# Altium schematic symbol library Huan.SCHLIB: 92 symbols
Pins are listed as number, name and electrical type; pins without a type are passive.

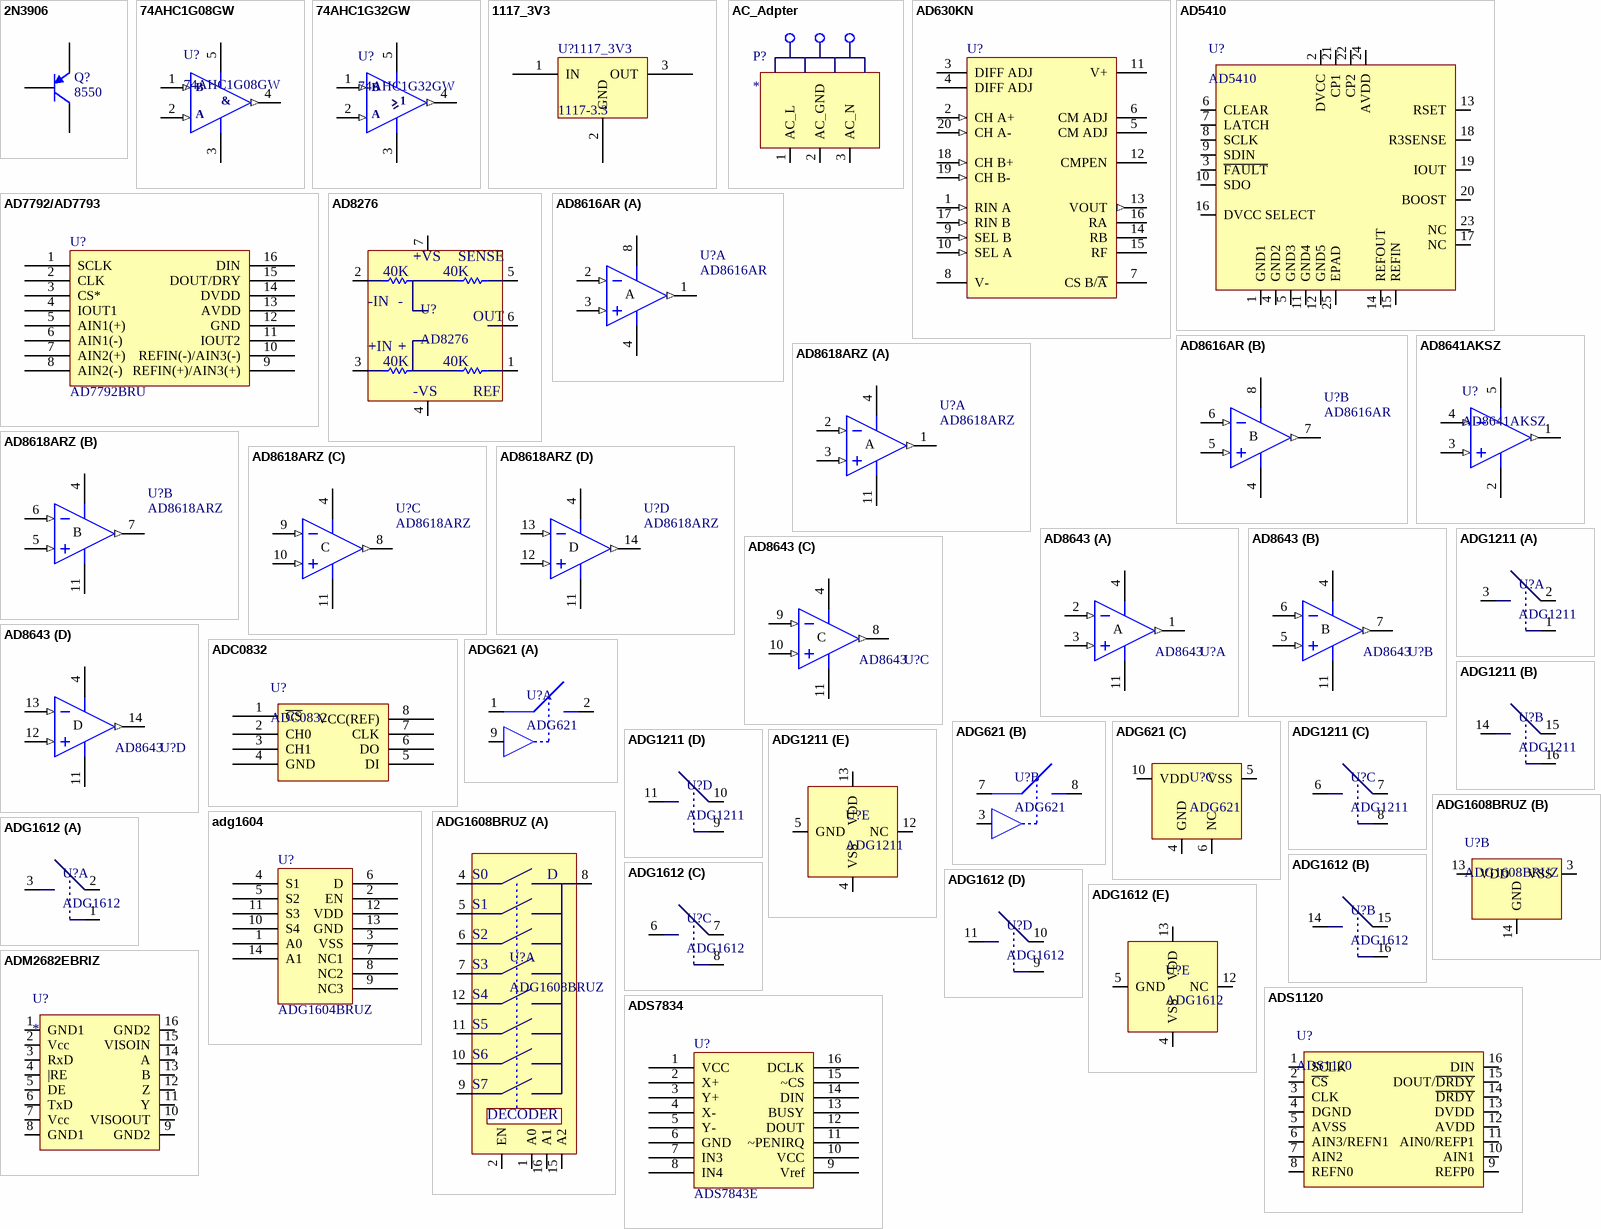
[diagram p0: symbols 2N3906 to ADS7834]

## 2N3906
designator Q?, comment 8550
PNP General Purpose Amplifier; Published: 8-Jun-2000; LatestRevisionDate: 15-Jan-2003; LatestRevisionNote: PCB Footprint 'BCY-W3/D4.7' replaced; DatasheetVersion: 1997; PackageVersion: Sep-1998; PackageReference: TO-92A; Publisher: Altium Limited; Code_JEDEC: TO-92A; ComponentLink1Description: Manufacturer Link; ComponentLink1URL: http://www.fairchildsemi.com/; ComponentLink2Description: Datasheet; ComponentLink2URL: http://www.fairchildsemi.com/ds/2N%2F2N3906.pdf
footprint SOT23 (SOT23, 3-Leads, Body 3.0x2.6mm (max), Pitch 0.95mm, IPC Medium Density); pin to pad 1>2 2>1
simulation model 2N3906 (PNP)
signal-integrity model 2N3906
pins: 1 E, 2 B, 3 C

## 74AHC1G08GW
designator U?
footprint DCK (SOT23, 5-Leads, Body 2.2x2.4mm (max), Pitch 0.65mm, IPC Medium Density)
pins: 1 A (in), 2 B (in), 3 V- (power), 4 OUT (out), 5 V+ (power)
text: &

## 74AHC1G32GW
designator U?
footprint dck (SOT23, 5-Leads, Body 2.2x2.4mm (max), Pitch 0.65mm, IPC Medium Density)
pins: 1 A (in), 2 B (in), 3 V- (power), 4 OUT (out), 5 V+ (power)

## 1117_3V3
designator U?
footprint SOT223 (SOT223, 4-Leads, Body 6.7x7.3mm (max), Pitch 2.30mm, IPC Medium Density); pin to pad 1>3 2>1 3>2
pins: 1 IN, 2 GND, 3 OUT
text: 1117-3.3

## AC_Adpter
designator P?
pins: 1 AC_L, 2 AC_GND, 3 AC_N

## AD630KN
designator U?
Balanced Modulator/Demodulator; Published: 8-Jun-2000; LatestRevisionDate: 29-May-2009; LatestRevisionNote: Component Body Added.; DatasheetVersion: Rev.A 1998; PackageReference: N-20; Publisher: Altium Limited; PackageDescription: DIP, 20-Pin, Row Spacing 7.62 mm, Pitch 2.54 mm; Code_JEDEC: MS-001-AD; ComponentLink1Description: Manufacturer Link; ComponentLink1URL: http://www.analog.com/en/prod/0%2C2877%2CAD630%2C00.html; ComponentLink2Description: Datasheet; ComponentLink2URL: http://www.analog.com/UploadedFiles/Data_Sheets/106127811AD630_e.pdf
footprint N-20 (DIP, 20-Leads, Row Spacing 7.62mm, Pitch 2.54mm, Body 25.2x6.61mm)
pins: 1 RIN A (in), 2 CH A+ (in), 3 DIFF ADJ, 4 DIFF ADJ, 5 CM ADJ, 6 CM ADJ, 7 CS B/~{A} (oc), 8 V- (power), 9 SEL B (in), 10 SEL A (in), 11 V+ (power), 12 CMPEN, 13 VOUT (out), 14 RB, 15 RF, 16 RA, 17 RIN B (in), 18 CH B+ (in), 19 CH B- (in), 20 CH A- (in)

## AD5410
designator U?
pins: 1 GND1, 2 DVCC, 3 ~{FAULT}, 4 GND2, 5 GND3, 6 CLEAR, 7 LATCH, 8 SCLK, 9 SDIN, 10 SDO, 11 GND4, 12 GND5, 13 RSET, 14 REFOUT, 15 REFIN, 16 DVCC SELECT, 17 NC, 18 R3SENSE, 19 IOUT, 20 BOOST, 21 CP1, 22 CP2, 23 NC, 24 AVDD, 25 EPAD

## AD7792/AD7793
designator U?, comment AD7792BRU
footprint TSSOP16
pins: 1 SCLK, 2 CLK, 3 CS*, 4 IOUT1, 5 AIN1(+), 6 AIN1(-), 7 AIN2(+), 8 AIN2(-), 9 REFIN(+)/AIN3(+), 10 REFIN(-)/AIN3(-), 11 IOUT2, 12 GND, 13 AVDD, 14 DVDD, 15 DOUT/DRY, 16 DIN

## AD8276
designator U?
pins: 1, 2, 3, 4, 5, 6, 7
text: +VS; SENSE; 40K; -IN; -; OUT; +IN; +; -VS; REF

## AD8616AR
designator U?
Published: 8-Jun-2000; LatestRevisionDate: 13-Apr-2006; LatestRevisionNote: IPC-7351 Footprint Added.; DatasheetVersion: REV. B 1998; PackageVersion: revA; PackageReference: SO-8; Publisher: Altium Limited; PackageDescription: 8-Pin Small Outline Integrated Circuit 1.27 mm Pitch; Code_JEDEC: MS-012-AA; Code_IPC: SOIC127P600-8; ComponentLink1Description: Manufacturer Link; ComponentLink1URL: http://www.analog.com/en/prod/0,,759_786_AD812%2C00.html; ComponentLink2Description: Datasheet; ComponentLink2URL: http://www.analog.com/UploadedFiles/Data_Sheets/200001408AD812_b.pdf
footprint SO-8_N (SOIC, 8-Leads, Body 4.9x3.9mm, Pitch 1.27mm, IPC Medium Density)
footprint SO-8_L (SOIC, 8-Leads, Body 4.9x3.9mm, Pitch 1.27mm, IPC High Density)
footprint SO-8_M (SOIC, 8-Leads, Body 4.9x3.9mm, Pitch 1.27mm, IPC Low Density)
3D model SO-8 (8-Pin Small Outline Integrated Circuit 1.27 mm Pitch)
simulation model AD812A (SUBCKT)
pins on every part: 4 V- (power), 8 V+ (power)
part A pins: 1 OUT (out), 2 IN- (in), 3 IN+ (in)
part B pins: 5 IN+ (in), 6 IN- (in), 7 OUT (out)
part A text: A
part B text: B

## AD8618ARZ
designator U?
Published: 8-Jun-2000; LatestRevisionDate: 04-Mar-2005; LatestRevisionNote: Stylized 3D Model Added.; DatasheetVersion: REV. B; PackageVersion: revB; PackageReference: Q-14; Publisher: Altium Limited; PackageDescription: DIP; 14 Leads; Row Spacing 7.62 mm; Pitch 2.54 mm; ComponentLink1Description: Manufacturer Link; ComponentLink1URL: http://www.analog.com/en/prod/0,,759_786_AD713%2C00.html; ComponentLink2Description: Datasheet; ComponentLink2URL: http://www.analog.com/UploadedFiles/Data_Sheets/70859332AD713_c.pdf
footprint R-14_l (SOIC, 14-Leads, Body 8.7x3.9mm, Pitch 1.27mm, IPC High Density)
pins on every part: 4 V+ (power), 11 V- (power)
part A pins: 1 OUT (out), 2 IN- (in), 3 IN+ (in)
part B pins: 5 IN+ (in), 6 IN- (in), 7 OUT (out)
part C pins: 8 OUT (out), 9 IN- (in), 10 IN+ (in)
part D pins: 12 IN+ (in), 13 IN- (in), 14 OUT (out)
part A text: A
part B text: B
part C text: C
part D text: D

## AD8641AKSZ
designator U?
footprint DCK (SOT23, 5-Leads, Body 2.2x2.4mm (max), Pitch 0.65mm, IPC Medium Density)
pins: 1 OUT (out), 2 V- (power), 3 IN+ (in), 4 IN- (in), 5 V+ (power)

## AD8643
designator U?
Published: 8-Jun-2000; LatestRevisionDate: 04-Mar-2005; LatestRevisionNote: Stylized 3D Model Added.; DatasheetVersion: REV. B; PackageVersion: revB; PackageReference: N-14_A; Publisher: Altium Limited; PackageDescription: DIP; 14 Leads; Row Spacing 7.62 mm; Pitch 2.54 mm; ComponentLink1Description: Manufacturer Link; ComponentLink1URL: http://www.analog.com/en/prod/0,,759_786_AD713%2C00.html; ComponentLink2Description: Datasheet; ComponentLink2URL: http://www.analog.com/UploadedFiles/Data_Sheets/70859332AD713_c.pdf
footprint R-14_l (SOIC, 14-Leads, Body 8.7x3.9mm, Pitch 1.27mm, IPC High Density)
pins on every part: 4 V+ (power), 11 V- (power)
part A pins: 1 OUT (out), 2 IN- (in), 3 IN+ (in)
part B pins: 5 IN+ (in), 6 IN- (in), 7 OUT (out)
part C pins: 8 OUT (out), 9 IN- (in), 10 IN+ (in)
part D pins: 12 IN+ (in), 13 IN- (in), 14 OUT (out)
part A text: A
part B text: B
part C text: C
part D text: D

## ADC0832
designator U?
footprint DIP8
pins: 1 ~{CS}, 2 CH0, 3 CH1, 4 GND, 5 DI, 6 DO, 7 CLK, 8 VCC(REF)

## ADG621
designator U?
part A pins: 1, 2, 9
part B pins: 3, 7, 8
part C pins: 4 GND, 5 VSS, 6 NC, 10 VDD

## ADG1211
designator U?
part A pins: 1, 2, 3
part B pins: 14, 15, 16
part C pins: 6, 7, 8
part D pins: 9, 10, 11
part E pins: 4 VSS, 5 GND, 12 NC, 13 VDD

## adg1604
designator U?, comment ADG1604BRUZ
footprint Tssop14 (Shrink Small Outline; 14 Leads; Body Width 4.4 mm; Pitch 0.65 mm)
pins: 1 A0, 2 EN, 3 VSS, 4 S1, 5 S2, 6 D, 7 NC1, 8 NC2, 9 NC3, 10 S4, 11 S3, 12 VDD, 13 GND, 14 A1

## ADG1608BRUZ
designator U?
part A pins: 1 A0, 2 EN, 4, 5, 6, 7, 8, 9, 10, 11, 12, 15 A2, 16 A1
part B pins: 3 VSS, 13 VDD, 14 GND
part A text: S0; D; S1; S2; S3; S4; S5; S6; S7; DECODER

## ADG1612
designator U?
part A pins: 1, 2, 3
part B pins: 14, 15, 16
part C pins: 6, 7, 8
part D pins: 9, 10, 11
part E pins: 4 VSS, 5 GND, 12 NC, 13 VDD

## ADM2682EBRIZ
designator U?
footprint SOIC127P1030X265-16N (SOIC, 16-Leads, Body 13.0x7.6mm (max), Pitch 1.27mm, IPC Medium Density)
pins: 1 GND1, 2 Vcc, 3 RxD, 4 |RE, 5 DE, 6 TxD, 7 Vcc, 8 GND1, 9 GND2, 10 VISOOUT, 11 Y, 12 Z, 13 B, 14 A, 15 VISOIN, 16 GND2

## ADS1120
designator U?
pins: 1 SCLK, 2 ~{CS}, 3 CLK, 4 DGND, 5 AVSS, 6 AIN3/REFN1, 7 AIN2, 8 REFN0, 9 REFP0, 10 AIN1, 11 AIN0/REFP1, 12 AVDD, 13 DVDD, 14 ~{DRDY}, 15 DOUT/~{DRDY}, 16 DIN

## ADS7834
designator U?, comment ADS7843E
footprint SSOP16 (SSOP, Plastic; 16 Leads; Body Width 5.3 mm; Pitch 0.65 mm)
pins: 1 VCC, 2 X+, 3 Y+, 4 X-, 5 Y-, 6 GND, 7 IN3, 8 IN4, 9 Vref, 10 VCC, 11 ~PENIRQ, 12 DOUT, 13 BUSY, 14 DIN, 15 ~CS, 16 DCLK

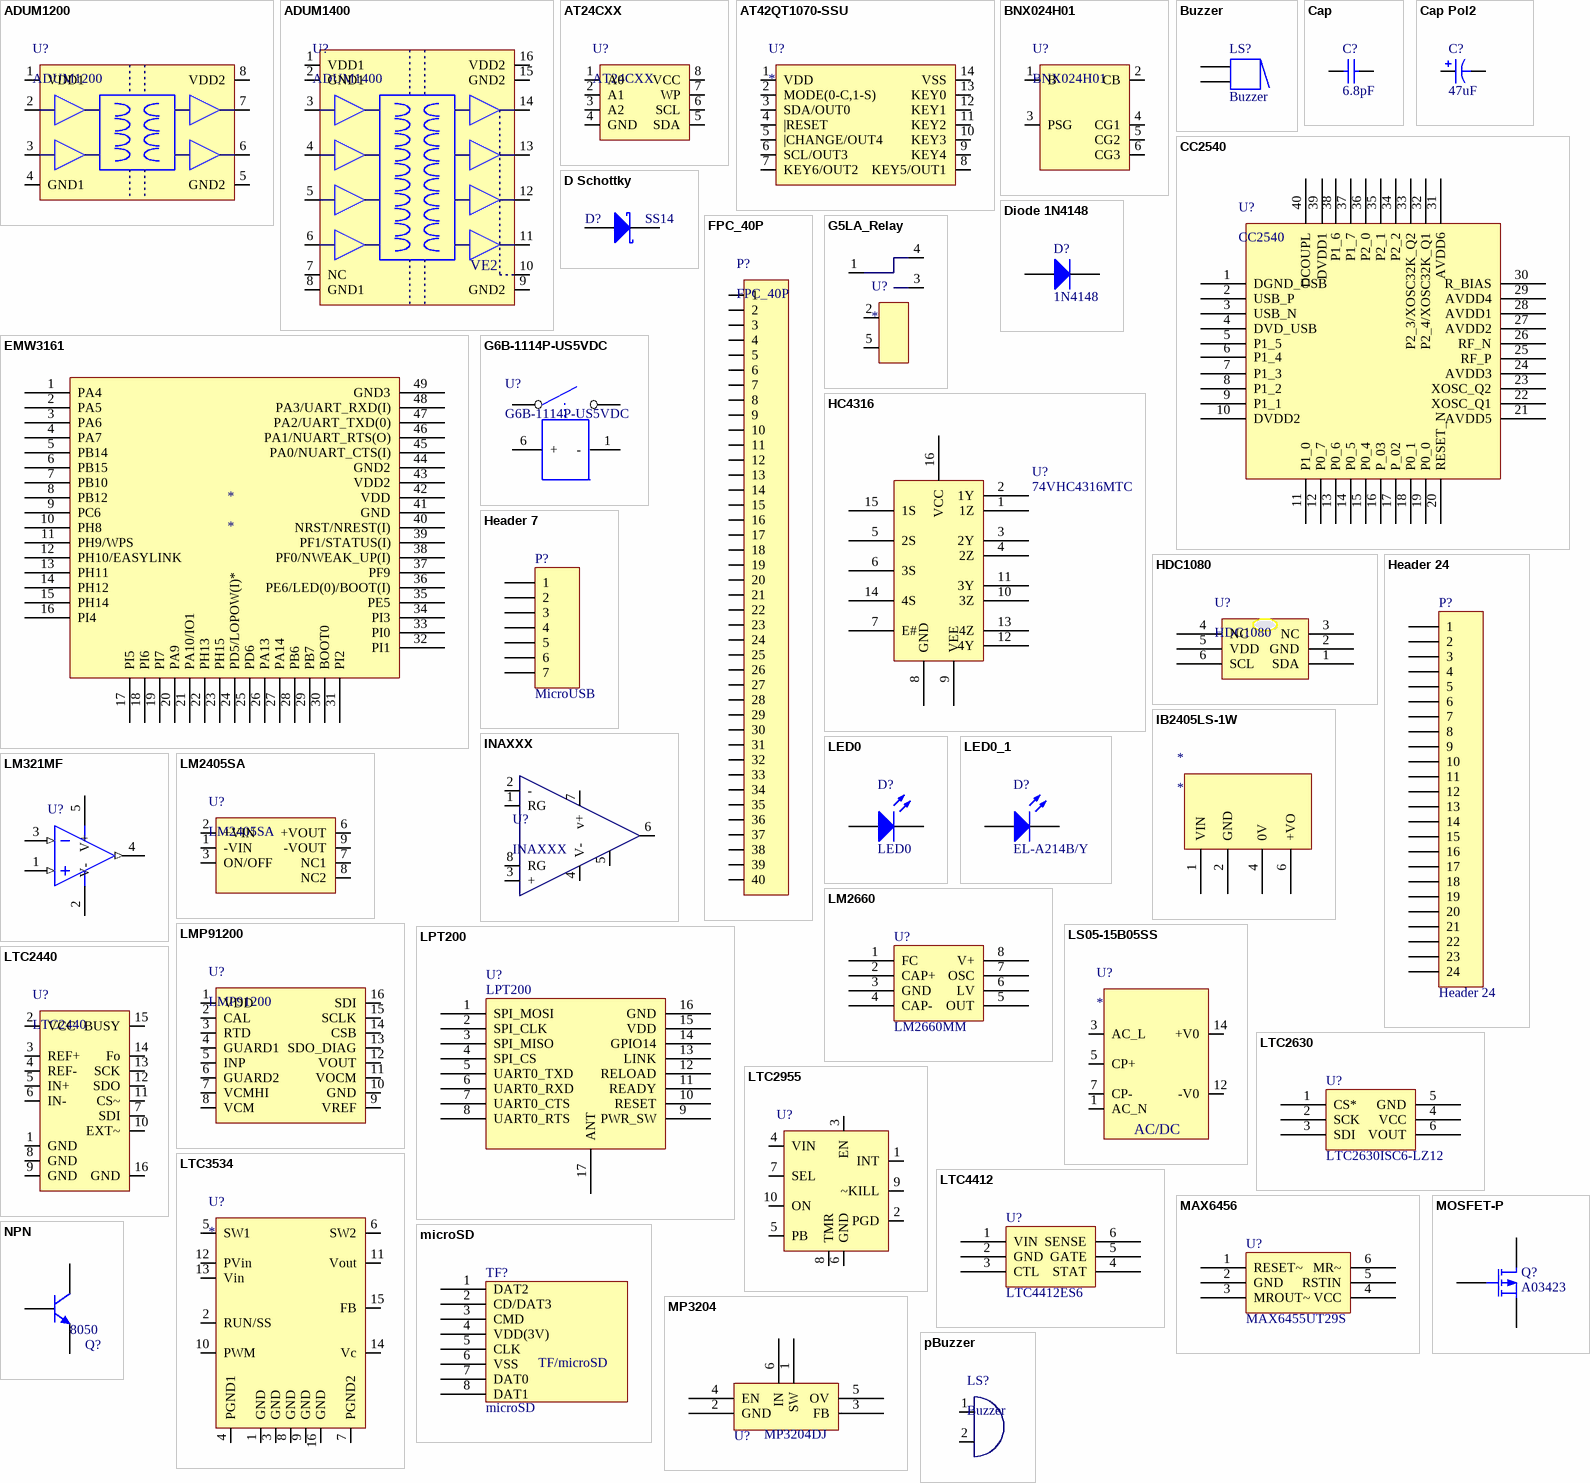
[diagram p1: symbols ADUM1200 to pBuzzer]

## ADUM1200
designator U?
pins: 1 VDD1, 2, 3, 4 GND1, 5 GND2, 6, 7, 8 VDD2

## ADUM1400
designator U?
pins: 1 VDD1, 2 GND1, 3, 4, 5, 6, 7 NC, 8 GND1, 9 GND2, 10, 11, 12, 13, 14, 15 GND2, 16 VDD2
text: VE2

## AT24CXX
designator U?
pins: 1 A0, 2 A1, 3 A2, 4 GND, 5 SDA, 6 SCL, 7 WP, 8 VCC

## AT42QT1070-SSU
designator U?
footprint R-14_l
pins: 1 VDD, 2 MODE(0-C,1-S), 3 SDA/OUT0, 4 |RESET, 5 |CHANGE/OUT4, 6 SCL/OUT3, 7 KEY6/OUT2, 8 KEY5/OUT1, 9 KEY4, 10 KEY3, 11 KEY2, 12 KEY1, 13 KEY0, 14 VSS

## BNX024H01
designator U?
pins: 1 B, 2 CB, 3 PSG, 4 CG1, 5 CG2, 6 CG3

## Buzzer
designator LS?
Magnetic Transducer Buzzer; Published: 24-Mar-1999; LatestRevisionDate: 17-Dec-2003; LatestRevisionNote: Schematic revised, PCB Footprint replaced.; DatasheetVersion: 17-Dec-2003; PackageReference: ABSM-1574; Publisher: Altium Limited; ComponentLink1Description: Manufacturer Link; ComponentLink1URL: http://www.megastar.com/linecard/buzzmode/index.php
footprint buzzer; pin to pad 1A>1 2A>2
pins: 1, 1A, 2, 2A
1 alternate drawing of the same symbol

## Cap
designator C?  value 6.8pF  (hidden comment: Cap)
Capacitor; Published: 8-Jun-2000; LatestRevisionDate: 17-Jul-2002; LatestRevisionNote: Re-released for DXP Platform.; PackageReference: RAD-0.3; Publisher: Altium Limited
footprint RAD-0.3 (Radial Cap, Thru-Hole; 2 Leads; 0.3 in Pin Spacing)
footprint CAPR2.54-5.1x3.2 (Capacitor, Ceramic, Thru-Hole, Dipped Radial; Body 5.1 x 3.2 mm (WxT) Pin Spacing 2.54 mm (typ))
footprint CAPR5.08-7.8x3.2 (Capacitor, Ceramic, Thru-Hole, Dipped Radial; Body 7.8 x 3.2 mm (WxT) Pin Spacing 5.08 mm (typ))
simulation model CAP (Capacitor)
signal-integrity model Cap
footprint 0603C
pins: 1, 2

## Cap Pol2
designator C?  value 47uF  (hidden comment: Cap Pol2)
Polarized Capacitor (Axial); Published: 8-Jun-2000; LatestRevisionDate: 17-Jul-2002; LatestRevisionNote: Re-released for DXP Platform.; PackageReference: POLAR0.8; Publisher: Altium Limited
footprint POLAR0.8 (Polarized Capacitor (Axial); 2 Leads)
footprint CAPPA14.05-10.5x6.3 (Capacitor, Axial, Polarised; Body 10.5 x 6.3 mm (LxDia. max), Lead Dia. 0.6 mm (typ))
footprint CAPPA23.6-18.5x8.5 (Capacitor, Axial, Polarised; Body 18.5 x 8.5 mm (LxDia. max), Lead Dia. 0.8 mm (typ))
footprint CAPPA31.6-26.5x12.5 (Capacitor, Axial, Polarised; Body 26.5 x 12.5 mm (LxDia. max), Lead Dia. 0.8 mm (typ))
footprint CAPPA35.6-30.5x18.5 (Capacitor, Axial, Polarised; Body 30.5 x 18.5 mm (LxDia. max), Lead Dia. 0.8 mm (typ))
footprint CAPPA46.1-41x21.5 (Capacitor, Axial, Polarised; Body 41 x 21.5 mm (LxDia. max), Lead Dia. 0.8 mm (typ))
simulation model CAP (Capacitor)
signal-integrity model Cap Pol
footprint 3528
pins: 1, 2
1 alternate drawing of the same symbol

## CC2540
designator U?
footprint VQFP-40 (Footprint not found)
pins: 1 DGND_USB, 2 USB_P, 3 USB_N, 4 DVD_USB, 5 P1_5, 6 P1_4, 7 P1_3, 8 P1_2, 9 P1_1, 10 DVDD2, 11 P1_0, 12 P0_7, 13 P0_6, 14 P0_5, 15 P0_4, 16 P_03, 17 P_02, 18 P0_1, 19 P0_0, 20 RESET_N, 21 AVDD5, 22 XOSC_Q1, 23 XOSC_Q2, 24 AVDD3, 25 RF_P, 26 RF_N, 27 AVDD2, 28 AVDD1, 29 AVDD4, 30 R_BIAS, 31 AVDD6, 32 P2_4/XOSC32K_Q1, 33 P2_3/XOSC32K_Q2, 34 P2_2, 35 P2_1, 36 P2_0, 37 P1_7, 38 P1_6, 39 DVDD1, 40 DCOUPL

## D Schottky
designator D?, comment SS14
Schottky Diode; Published: 8-Jun-2000; LatestRevisionDate: 17-Jul-2002; LatestRevisionNote: Re-released for DXP Platform.; PackageReference: SMB; Publisher: Altium Limited; Code_JEDEC: DO-214-AA
footprint ss1x
simulation model SKYDIODE (Diode)
signal-integrity model D Schottky
pins: 1 A, 2 K

## Diode 1N4148
designator D?, comment 1N4148
High Conductance Fast Diode; Published: 8-Jun-2000; LatestRevisionDate: 17-Jul-2002; LatestRevisionNote: Re-released for DXP Platform.; DatasheetVersion: 1997; PackageReference: DO-35; Publisher: Altium Limited; Code_JEDEC: DO-204-AH; ComponentLink1Description: Manufacturer Link; ComponentLink1URL: http://www.fairchildsemi.com/; ComponentLink2Description: Datasheet; ComponentLink2URL: http://www.fairchildsemi.com/ds/1N%2F1N4148.pdf
footprint SOD-323
simulation model 1N4148 (DIODE)
signal-integrity model 1N4148
pins: 1 A, 2 K

## EMW3161
designator *
footprint EMW3161
pins: 1 PA4, 2 PA5, 3 PA6, 4 PA7, 5 PB14, 6 PB15, 7 PB10, 8 PB12, 9 PC6, 10 PH8, 11 PH9/WPS, 12 PH10/EASYLINK, 13 PH11, 14 PH12, 15 PH14, 16 PI4, 17 PI5, 18 PI6, 19 PI7, 20 PA9, 21 PA10/IO1, 22 PH13, 23 PH15, 24 PD5/LOPOW(I)*, 25 PD6, 26 PA13, 27 PA14, 28 PB6, 29 PB7, 30 BOOT0, 31 PI2, 32 PI1, 33 PI0, 34 PI3, 35 PE5, 36 PE6/LED(0)/BOOT(I), 37 PF9, 38 PF0/NWEAK_UP(I), 39 PF1/STATUS(I), 40 NRST/NREST(I), 41 GND, 42 VDD, 43 VDD2, 44 GND2, 45 PA0/NUART_CTS(I), 46 PA1/NUART_RTS(O), 47 PA2/UART_TXD(0), 48 PA3/UART_RXD(I), 49 GND3

## FPC_40P
designator P?
pins: 1, 2, 3, 4, 5, 6, 7, 8, 9, 10, 11, 12, 13, 14, 15, 16, 17, 18, 19, 20, 21, 22, 23, 24, 25, 26, 27, 28, 29, 30, 31, 32, 33, 34, 35, 36, 37, 38, 39, 40

## G5LA_Relay
designator U?
pins: 1, 2, 3, 4, 5

## G6B-1114P-US5VDC
designator U?
footprint G6B-1114P-US-XXVDC
pins: 1 -, 3, 4, 6 +

## HC4316
designator U?, comment 74VHC4316MTC
footprint ssop16 (SSOP, Plastic; 16 Leads; Body Width 5.3 mm; Pitch 0.65 mm)
pins: 1 1Z, 2 1Y, 3 2Y, 4 2Z, 5 2S, 6 3S, 7 E#, 8 GND, 9 VEE, 10 3Z, 11 3Y, 12 4Y, 13 4Z, 14 4S, 15 1S, 16 VCC

## HDC1080
designator U?
footprint DFN-6
pins: 1 SDA, 2 GND, 3 NC, 4 NC, 5 VDD, 6 SCL

## Header 7
designator P?, comment MicroUSB
Header, 7-Pin; LatestRevisionDate: 17-Jul-2002; LatestRevisionNote: Re-released for DXP Platform.; Publisher: Altium Limited
footprint Microusb
signal-integrity model Connector
pins: 1, 2, 3, 4, 5, 6, 7

## Header 24
designator P?
Header, 24-Pin; LatestRevisionDate: 17-Jul-2002; LatestRevisionNote: Re-released for DXP Platform.; Publisher: Altium Limited
footprint FPC_24P_0.5
signal-integrity model Connector
pins: 1, 2, 3, 4, 5, 6, 7, 8, 9, 10, 11, 12, 13, 14, 15, 16, 17, 18, 19, 20, 21, 22, 23, 24

## IB2405LS-1W
designator *
footprint IB2405LS-1W
pins: 1 VIN, 2 GND, 4 0V, 6 +VO

## INAXXX
designator U?
pins: 1 RG, 2 -, 3 +, 4 V-, 5, 6, 7 v+, 8 RG

## LED0
designator D?
LED; Published: 8-Jun-2000; LatestRevisionDate: 08-Jul-2005; LatestRevisionNote: Mech Layer 1 removed.; PackageReference: LED-0; Publisher: Altium Limited
footprint 5mmLED (5mmLED 绿)
pins: 1 A, 2 K

## LED0_1
designator D?, comment EL-A214B/Y
Typical INFRARED GaAs LED; Published: 8-Jun-2000; LatestRevisionDate: 08-Jul-2005; LatestRevisionNote: Mech Layer 1 removed.; PackageReference: LED-0; Publisher: Altium Limited
footprint LED-2.54
simulation model LED0 (Diode)
pins: 1 A, 2 K

## LM321MF
designator U?
Low Power Single Op Amp; PartNumber: LM321MF; Manufacturer: National Semiconductor; CompType: Amplifiers; PackageTopMarking: A63A*XTT; PowerWise: N; Published: 4-Dec-2008; LatestRevisionDate: 13-Jan-2009; LatestRevisionNote: Sim Model Added.; DatasheetVersion: Apr-2001; PackageVersion: revD, Aug-2008; PackageReference: MF05A; Publisher: Altium Limited; PackageDescription: Molded SOT-23, .115 x .063 x .040 in Body, 5 Lead, .0375 in Pitch; RoHS: O; PinCount: 5; DigiKeyPartNumber: LM321MFCT-ND; Code_IPC: SOT23-5; ComponentLink1Description: LM321 Datasheet; ComponentLink1URL: http://www.national.com/ds/LM/LM321.pdf; ComponentLink2Description: LM321 Web Page; ComponentLink2URL: http://www.national.com/pf/LM/LM321.html; ComponentLink3Description: MF05A Package Page; ComponentLink3URL: http://www.national.com/packaging/folders/mf05a.html
footprint SOT95P284X122-5N (SOT23, 5-Leads, Body 2.3x2.8mm (max), Pitch 0.95mm, IPC Medium Density)
pins: 1 IN+ (in), 2 V- (power), 3 IN- (in), 4 OUT (out), 5 V+ (power)

## LM2405SA
designator U?
pins: 1 -VIN, 2 +VIN, 3 ON/OFF, 6 +VOUT, 7 NC1, 8 NC2, 9 -VOUT

## LM2660
designator U?, comment LM2660MM
footprint 8-Lead Mini SO (MM) (TSOP, 8-Leads, Body 3.1x3.1mm (max), Pitch 0.65mm, IPC Medium Density)
pins: 1 FC, 2 CAP+, 3 GND, 4 CAP-, 5 OUT, 6 LV, 7 OSC, 8 V+

## LMP91200
designator U?
pins: 1 VDD, 2 CAL, 3 RTD, 4 GUARD1, 5 INP, 6 GUARD2, 7 VCMHI, 8 VCM, 9 VREF, 10 GND, 11 VOCM, 12 VOUT, 13 SDO_DIAG, 14 CSB, 15 SCLK, 16 SDI

## LPT200
designator U?
footprint LPT200
footprint LPT200
pins: 1 SPI_MOSI, 2 SPI_CLK, 3 SPI_MISO, 4 SPI_CS, 5 UART0_TXD, 6 UART0_RXD, 7 UART0_CTS, 8 UART0_RTS, 9 PWR_SW, 10 RESET, 11 READY, 12 RELOAD, 13 LINK, 14 GPIO14, 15 VDD, 16 GND, 17 ANT

## LS05-15B05SS
designator U?
pins: 1 AC_N, 3 AC_L, 5 CP+, 7 CP-, 12 -V0, 14 +V0
text: AC/DC

## LTC2440
designator U?
pins: 1 GND, 2 VCC, 3 REF+, 4 REF-, 5 IN+, 6 IN-, 7 SDI, 8 GND, 9 GND, 10 EXT~, 11 CS~, 12 SDO, 13 SCK, 14 Fo, 15 BUSY, 16 GND

## LTC2630
designator U?, comment LTC2630ISC6-LZ12
footprint sc6 (SOT23, 6-Leads, Body 2.2x2.4mm (max), Pitch 0.65mm, IPC Medium Density)
pins: 1 CS*, 2 SCK, 3 SDI, 4 VCC, 5 GND, 6 VOUT

## LTC2955
designator U?  (value not drawn)
footprint LTC2955IDDB
pins: 1 INT, 2 PGD, 3 EN, 4 VIN, 5 PB, 6 GND, 7 SEL, 8 TMR, 9 ~KILL, 10 ON

## LTC3534
designator U?
footprint DFN53
pins: 1 GND, 2 RUN/SS, 3 GND, 4 PGND1, 5 SW1, 6 SW2, 7 PGND2, 8 GND, 9 GND, 10 PWM, 11 Vout, 12 PVin, 13 Vin, 14 Vc, 15 FB, 16 GND

## LTC4412
designator U?, comment LTC4412ES6
footprint TSOT-23 (SOT23, 6-Leads, Body 2.9x2.8mm (max), Pitch 0.95mm, IPC Medium Density)
pins: 1 VIN, 2 GND, 3 CTL, 4 STAT, 5 GATE, 6 SENSE

## MAX6456
designator U?, comment MAX6455UT29S
footprint SOT23-6L (SOT23, 6-Leads, Body 3.0x3.0mm (max), Pitch 0.95mm, IPC Medium Density)
pins: 1 RESET~, 2 GND, 3 MROUT~, 4 VCC, 5 RSTIN, 6 MR~

## microSD
designator TF?
footprint TF-2
pins: 1 DAT2, 2 CD/DAT3, 3 CMD, 4 VDD(3V), 5 CLK, 6 VSS, 7 DAT0, 8 DAT1
text: TF/microSD

## MOSFET-P
designator Q?, comment A03423
P-Channel MOSFET; Published: 8-Jun-2000; LatestRevisionDate: 17-Jul-2002; LatestRevisionNote: Re-released for DXP Platform.; PackageVersion: 1995/1996; PackageReference: E3; Publisher: Altium Limited
footprint SOT23 (SOT23, 3-Leads, Body 3.0x2.6mm (max), Pitch 0.95mm, IPC Medium Density); pin to pad 1>3 2>1 3>2
simulation model PMOS (MOSFET-P)
pins: 1 D, 2 G, 3 S

## MP3204
designator U?, comment MP3204DJ
footprint TSOT23-6
pins: 1 SW, 2 GND, 3 FB, 4 EN, 5 OV, 6 IN

## NPN
designator Q?, comment 8050
NPN Bipolar Transistor; Published: 8-Jun-2000; LatestRevisionDate: 17-Jul-2002; LatestRevisionNote: Re-released for DXP Platform.; PackageReference: TO-226; Publisher: Altium Limited; Code_JEDEC: TO-226-AA
footprint sot23 (SOT23, 3-Leads, Body 3.0x2.6mm (max), Pitch 0.95mm, IPC Medium Density); pin to pad 1>3 2>1 3>2
simulation model NPN
signal-integrity model NPN
pins: 1 C, 2 B, 3 E

## pBuzzer
designator LS?, comment Buzzer
footprint buzzer
pins: 1, 2

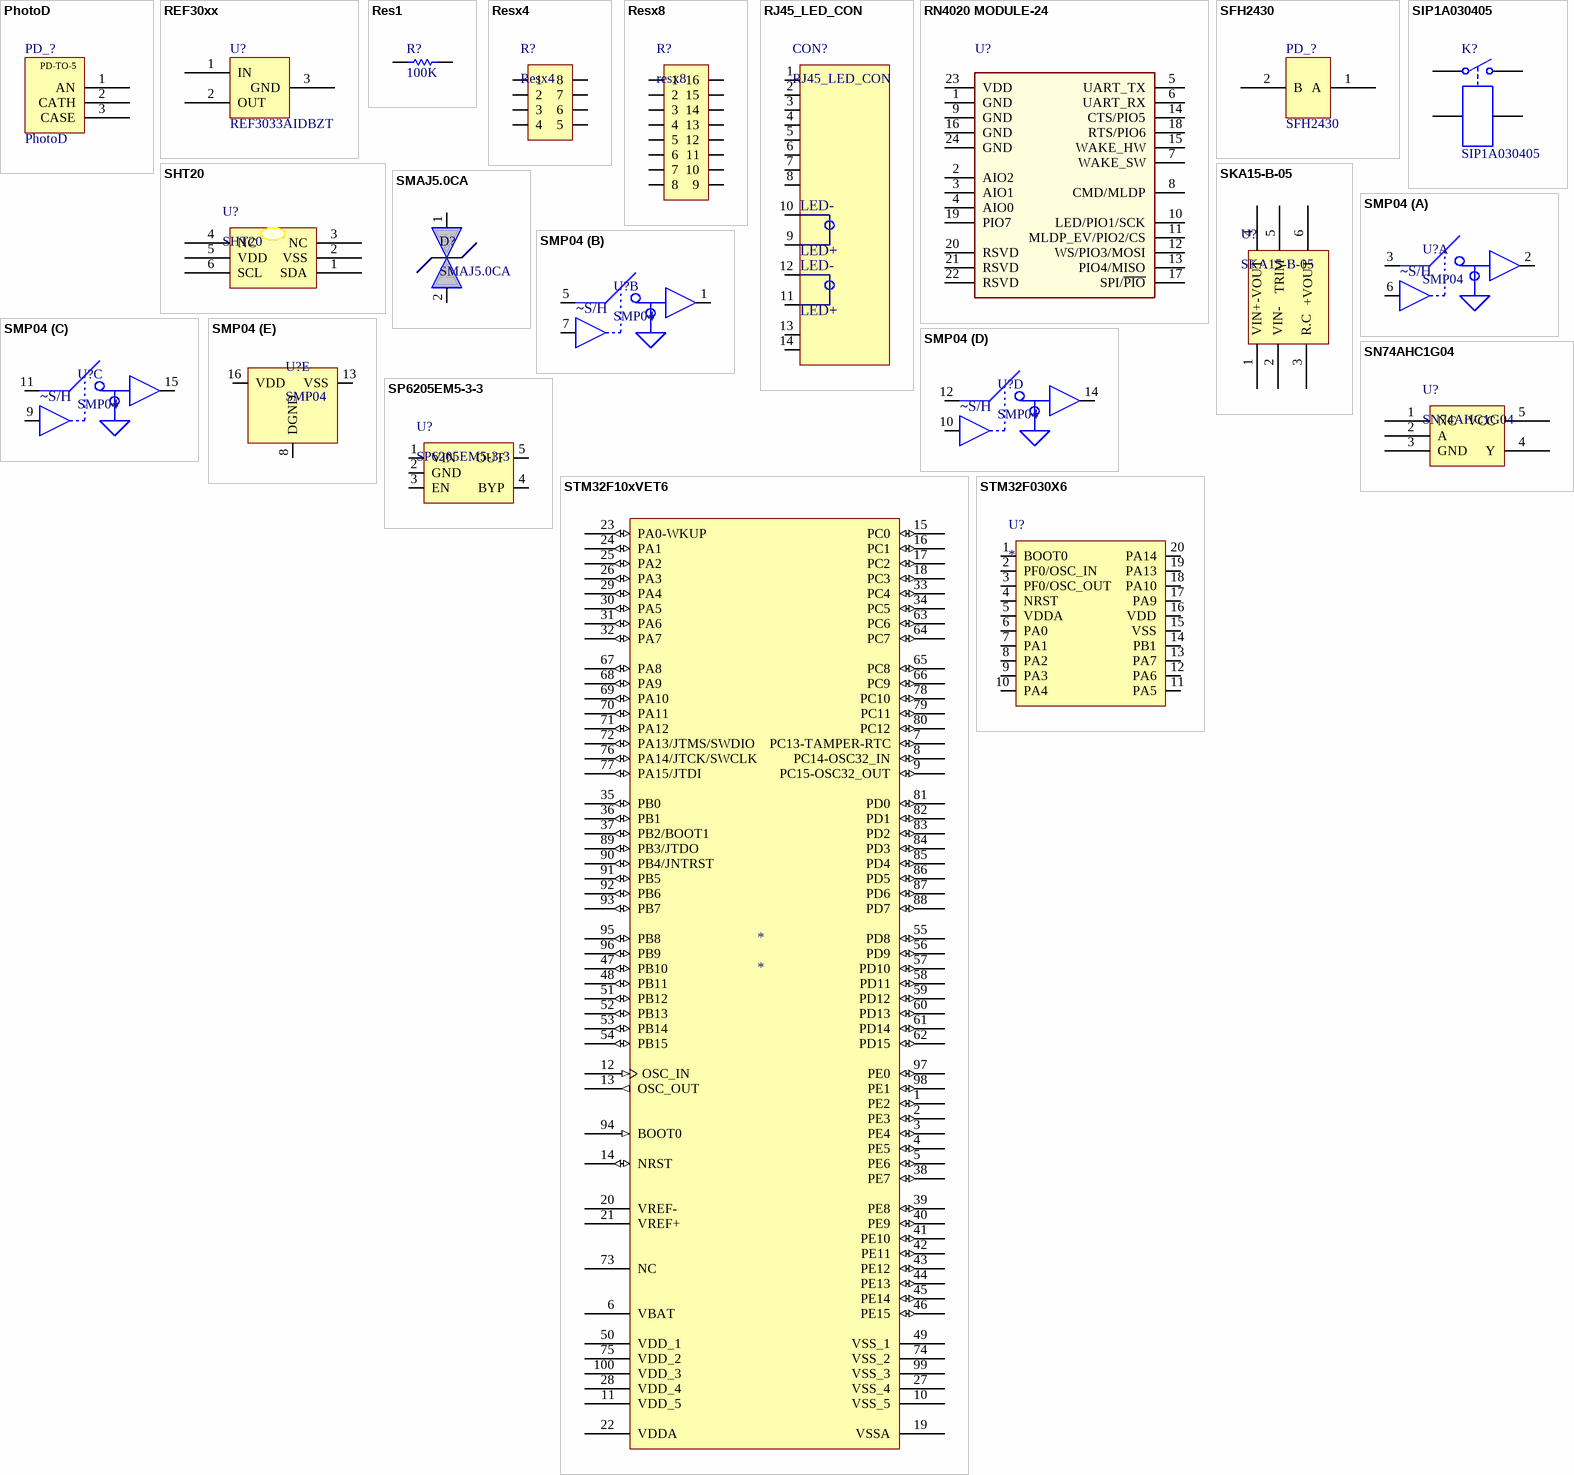
[diagram p2: symbols PhotoD to STM32F030X6]

## PhotoD
designator PD_?
footprint PhotoDiode
pins: 1 AN, 2 CATH, 3 CASE
text: PD-TO-5

## REF30xx
designator U?, comment REF3033AIDBZT
footprint SOT23
pins: 1 IN, 2 OUT, 3 GND

## Res1
designator R?  value 100K  (hidden comment: Res1)
Resistor; Published: 8-Jun-2000; LatestRevisionDate: 17-Jul-2002; LatestRevisionNote: Re-released for DXP Platform.; PackageReference: AXIAL-0.3; Publisher: Altium Limited
footprint AXIAL-0.3 (Axial Device, Thru-Hole; 2 Leads; 0.3 in Pin Spacing)
simulation model RESISTOR (Resistor)
signal-integrity model Res
footprint 0603R
pins: 1, 2

## Resx4
designator R?
footprint 0603x4
pins: 1, 2, 3, 4, 5, 6, 7, 8

## Resx8
designator R?, comment resx8
pins: 1, 2, 3, 4, 5, 6, 7, 8, 9, 10, 11, 12, 13, 14, 15, 16

## RJ45_LED_CON
designator CON?
pins: 1, 2, 3, 4, 5, 6, 7, 8, 9, 10, 11, 12, 13, 14
text: LED-; LED+

## RN4020 MODULE-24
designator U?  (value not drawn)
footprint RN4020 MODULE-24
pins: 1 GND, 2 AIO2, 3 AIO1, 4 AIO0, 5 UART_TX, 6 UART_RX, 7 WAKE_SW, 8 CMD/MLDP, 9 GND, 10 LED/PIO1/SCK, 11 MLDP_EV/PIO2/CS, 12 WS/PIO3/MOSI, 13 PIO4/MISO, 14 CTS/PIO5, 15 WAKE_HW, 16 GND, 17 SPI/~{PIO}, 18 RTS/PIO6, 19 PIO7, 20 RSVD, 21 RSVD, 22 RSVD, 23 VDD, 24 GND
1 alternate drawing of the same symbol

## SFH2430
designator PD_?
footprint PhotoDiode_1
pins: 1 A, 2 B

## SHT20
designator U?
footprint DFN-6
pins: 1 SDA, 2 VSS, 3 NC, 4 NC, 5 VDD, 6 SCL

## SIP1A030405
designator K?
Single-Pole Single-Throw Relay; Published: 24-Mar-1999; LatestRevisionDate: 17-Jul-2002; LatestRevisionNote: Re-released for DXP Platform.; PackageReference: MODULE4; Publisher: Altium Limited
footprint SIP1A030405 (干簧管继电器)
pins: 1, 2, 3, 4

## SKA15-B-05
designator U?
pins: 1 VIN+, 2 VIN-, 3 R.C, 4 -VOUT, 5 TRIM, 6 +VOUT

## SMAJ5.0CA
designator D?
footprint ss1x
pins: 1, 2

## SMP04
designator U?
part A pins: 2, 3, 6 ~{S}/H
part B pins: 1, 5, 7 ~{S}/H
part C pins: 9, 11, 15
part D pins: 10 ~{S}/H, 12, 14
part E pins: 8 DGND, 13 VSS, 16 VDD
part A text: ~S/H
part B text: ~S/H
part C text: ~S/H
part D text: ~S/H

## SN74AHC1G04
designator U?
footprint DCK (SOT23, 5-Leads, Body 2.2x2.4mm (max), Pitch 0.65mm, IPC Medium Density)
pins: 1 NC, 2 A, 3 GND, 4 Y, 5 VCC

## SP6205EM5-3-3
designator U?
footprint SOT-23-5L
pins: 1 VIN, 2 GND, 3 EN, 4 BYP, 5 OUT

## STM32F10xVET6
designator *
pins: 1 PE2 (io), 2 PE3 (io), 3 PE4 (io), 4 PE5 (io), 5 PE6 (io), 6 VBAT (power), 7 PC13-TAMPER-RTC (io), 8 PC14-OSC32_IN (io), 9 PC15-OSC32_OUT (io), 10 VSS_5 (power), 11 VDD_5 (power), 12 OSC_IN (in), 13 OSC_OUT (out), 14 NRST (io), 15 PC0 (io), 16 PC1 (io), 17 PC2 (io), 18 PC3 (io), 19 VSSA (power), 20 VREF- (power), 21 VREF+ (power), 22 VDDA (power), 23 PA0-WKUP (io), 24 PA1 (io), 25 PA2 (io), 26 PA3 (io), 27 VSS_4 (power), 28 VDD_4 (power), 29 PA4 (io), 30 PA5 (io), 31 PA6 (io), 32 PA7 (io), 33 PC4 (io), 34 PC5 (io), 35 PB0 (io), 36 PB1 (io), 37 PB2/BOOT1 (io), 38 PE7 (io), 39 PE8 (io), 40 PE9 (io), 41 PE10 (io), 42 PE11 (io), 43 PE12 (io), 44 PE13 (io), 45 PE14 (io), 46 PE15 (io), 47 PB10 (io), 48 PB11 (io), 49 VSS_1 (power), 50 VDD_1 (power), 51 PB12 (io), 52 PB13 (io), 53 PB14 (io), 54 PB15 (io), 55 PD8 (io), 56 PD9 (io), 57 PD10 (io), 58 PD11 (io), 59 PD12 (io), 60 PD13 (io), 61 PD14 (io), 62 PD15 (io), 63 PC6 (io), 64 PC7 (io), 65 PC8 (io), 66 PC9 (io), 67 PA8 (io), 68 PA9 (io), 69 PA10 (io), 70 PA11 (io), 71 PA12 (io), 72 PA13/JTMS/SWDIO (io), 73 NC, 74 VSS_2 (power), 75 VDD_2 (power), 76 PA14/JTCK/SWCLK (io), 77 PA15/JTDI (io), 78 PC10 (io), 79 PC11 (io), 80 PC12 (io), 81 PD0 (io), 82 PD1 (io), 83 PD2 (io), 84 PD3 (io), 85 PD4 (io), 86 PD5 (io), 87 PD6 (io), 88 PD7 (io), 89 PB3/JTDO (io), 90 PB4/JNTRST (io), 91 PB5 (io), 92 PB6 (io), 93 PB7 (io), 94 BOOT0 (in), 95 PB8 (io), 96 PB9 (io), 97 PE0 (io), 98 PE1 (io), 99 VSS_3 (power), 100 VDD_3 (power)

## STM32F030X6
designator U?
pins: 1 BOOT0, 2 PF0/OSC_IN, 3 PF0/OSC_OUT, 4 NRST, 5 VDDA, 6 PA0, 7 PA1, 8 PA2, 9 PA3, 10 PA4, 11 PA5, 12 PA6, 13 PA7, 14 PB1, 15 VSS, 16 VDD, 17 PA9, 18 PA10, 19 PA13, 20 PA14

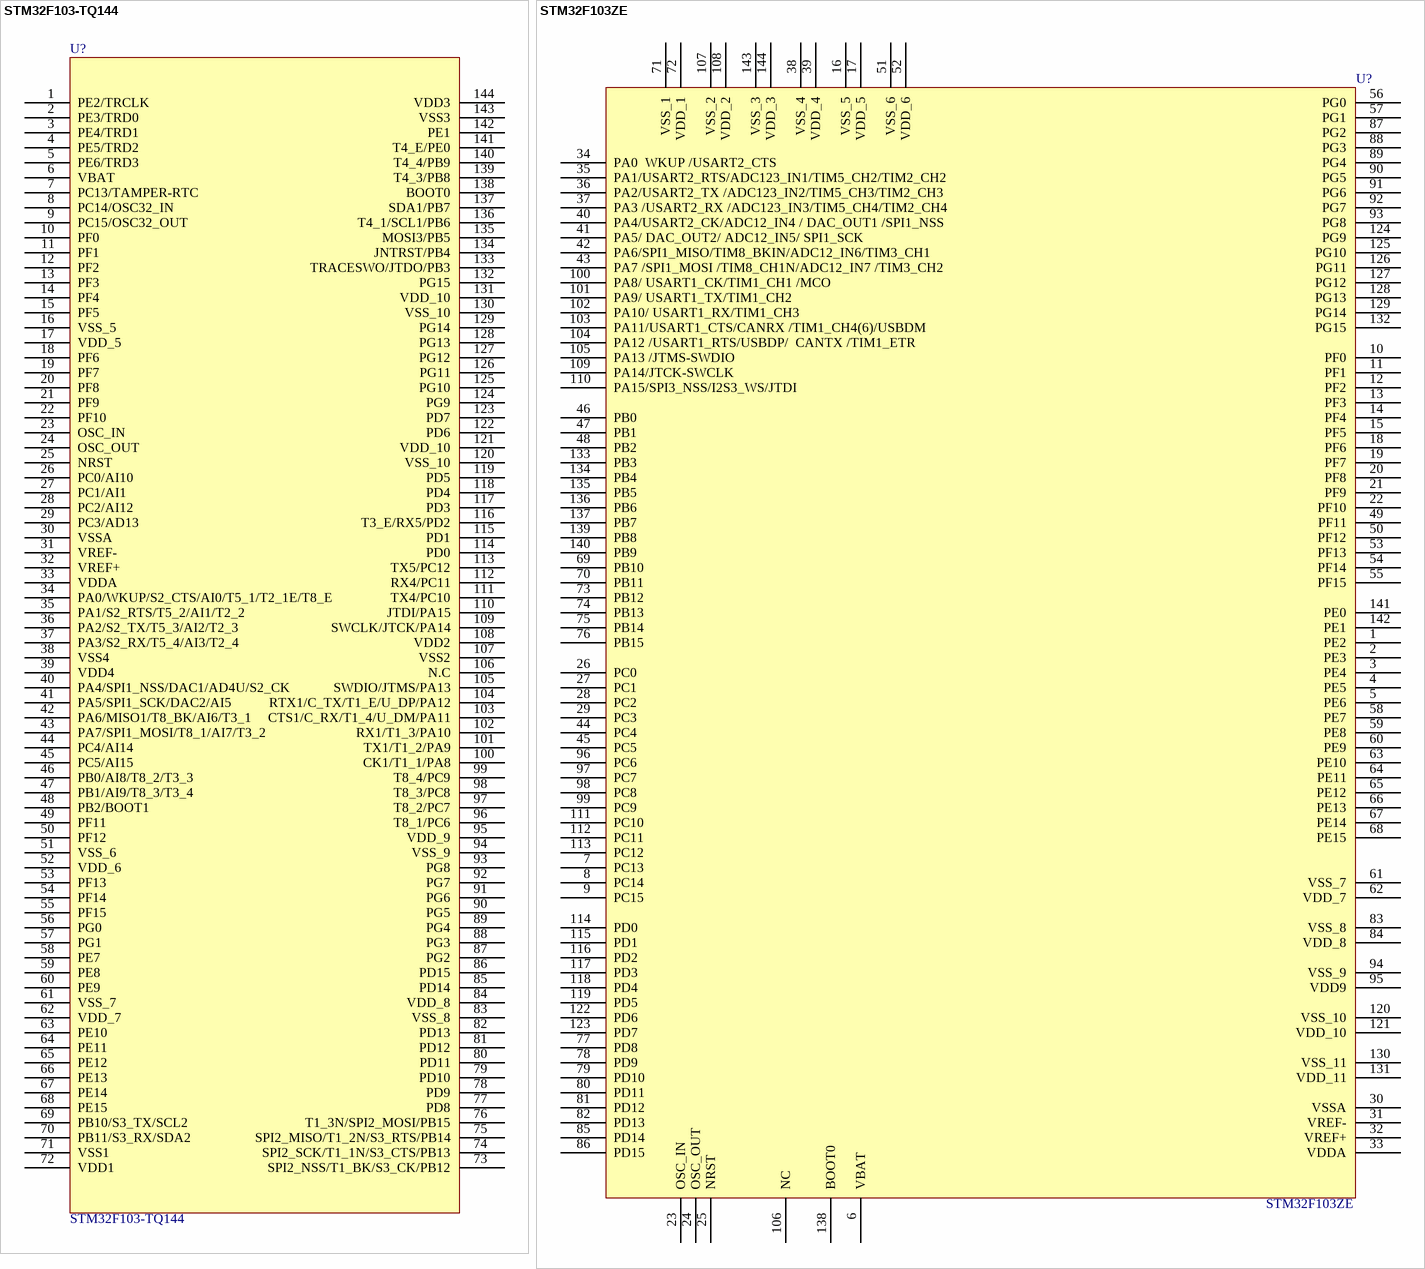
[diagram p3: symbols STM32F103-TQ144 to STM32F103ZE]

## STM32F103-TQ144
designator U?
footprint LQFP144A
pins: 1 PE2/TRCLK, 2 PE3/TRD0, 3 PE4/TRD1, 4 PE5/TRD2, 5 PE6/TRD3, 6 VBAT, 7 PC13/TAMPER-RTC, 8 PC14/OSC32_IN, 9 PC15/OSC32_OUT, 10 PF0, 11 PF1, 12 PF2, 13 PF3, 14 PF4, 15 PF5, 16 VSS_5, 17 VDD_5, 18 PF6, 19 PF7, 20 PF8, 21 PF9, 22 PF10, 23 OSC_IN, 24 OSC_OUT, 25 NRST, 26 PC0/AI10, 27 PC1/AI1, 28 PC2/AI12, 29 PC3/AD13, 30 VSSA, 31 VREF-, 32 VREF+, 33 VDDA, 34 PA0/WKUP/S2_CTS/AI0/T5_1/T2_1E/T8_E, 35 PA1/S2_RTS/T5_2/AI1/T2_2, 36 PA2/S2_TX/T5_3/AI2/T2_3, 37 PA3/S2_RX/T5_4/AI3/T2_4, 38 VSS4, 39 VDD4, 40 PA4/SPI1_NSS/DAC1/AD4U/S2_CK, 41 PA5/SPI1_SCK/DAC2/AI5, 42 PA6/MISO1/T8_BK/AI6/T3_1, 43 PA7/SPI1_MOSI/T8_1/AI7/T3_2, 44 PC4/AI14, 45 PC5/AI15, 46 PB0/AI8/T8_2/T3_3, 47 PB1/AI9/T8_3/T3_4, 48 PB2/BOOT1, 49 PF11, 50 PF12, 51 VSS_6, 52 VDD_6, 53 PF13, 54 PF14, 55 PF15, 56 PG0, 57 PG1, 58 PE7, 59 PE8, 60 PE9, 61 VSS_7, 62 VDD_7, 63 PE10, 64 PE11, 65 PE12, 66 PE13, 67 PE14, 68 PE15, 69 PB10/S3_TX/SCL2, 70 PB11/S3_RX/SDA2, 71 VSS1, 72 VDD1, 73 SPI2_NSS/T1_BK/S3_CK/PB12, 74 SPI2_SCK/T1_1N/S3_CTS/PB13, 75 SPI2_MISO/T1_2N/S3_RTS/PB14, 76 T1_3N/SPI2_MOSI/PB15, 77 PD8, 78 PD9, 79 PD10, 80 PD11, 81 PD12, 82 PD13, 83 VSS_8, 84 VDD_8, 85 PD14, 86 PD15, 87 PG2, 88 PG3, 89 PG4, 90 PG5, 91 PG6, 92 PG7, 93 PG8, 94 VSS_9, 95 VDD_9, 96 T8_1/PC6, 97 T8_2/PC7, 98 T8_3/PC8, 99 T8_4/PC9, 100 CK1/T1_1/PA8, 101 TX1/T1_2/PA9, 102 RX1/T1_3/PA10, 103 CTS1/C_RX/T1_4/U_DM/PA11, 104 RTX1/C_TX/T1_E/U_DP/PA12, 105 SWDIO/JTMS/PA13, 106 N.C, 107 VSS2, 108 VDD2, 109 SWCLK/JTCK/PA14, 110 JTDI/PA15, 111 TX4/PC10, 112 RX4/PC11, 113 TX5/PC12, 114 PD0, 115 PD1, 116 T3_E/RX5/PD2, 117 PD3, 118 PD4, 119 PD5, 120 VSS_10, 121 VDD_10, 122 PD6, 123 PD7, 124 PG9, 125 PG10, 126 PG11, 127 PG12, 128 PG13, 129 PG14, 130 VSS_10, 131 VDD_10, 132 PG15, 133 TRACESWO/JTDO/PB3, 134 JNTRST/PB4, 135 MOSI3/PB5, 136 T4_1/SCL1/PB6, 137 SDA1/PB7, 138 BOOT0, 139 T4_3/PB8, 140 T4_4/PB9, 141 T4_E/PE0, 142 PE1, 143 VSS3, 144 VDD3

## STM32F103ZE
designator U?
footprint LQFP144
pins: 1 PE2, 2 PE3, 3 PE4, 4 PE5, 5 PE6, 6 VBAT, 7 PC13, 8 PC14, 9 PC15, 10 PF0, 11 PF1, 12 PF2, 13 PF3, 14 PF4, 15 PF5, 16 VSS_5, 17 VDD_5, 18 PF6, 19 PF7, 20 PF8, 21 PF9, 22 PF10, 23 OSC_IN, 24 OSC_OUT, 25 NRST, 26 PC0, 27 PC1, 28 PC2, 29 PC3, 30 VSSA, 31 VREF-, 32 VREF+, 33 VDDA, 34 PA0  WKUP /USART2_CTS, 35 PA1/USART2_RTS/ADC123_IN1/TIM5_CH2/TIM2_CH2, 36 PA2/USART2_TX /ADC123_IN2/TIM5_CH3/TIM2_CH3, 37 PA3 /USART2_RX /ADC123_IN3/TIM5_CH4/TIM2_CH4, 38 VSS_4, 39 VDD_4, 40 PA4/USART2_CK/ADC12_IN4 / DAC_OUT1 /SPI1_NSS, 41 PA5/ DAC_OUT2/ ADC12_IN5/ SPI1_SCK, 42 PA6/SPI1_MISO/TIM8_BKIN/ADC12_IN6/TIM3_CH1, 43 PA7 /SPI1_MOSI /TIM8_CH1N/ADC12_IN7 /TIM3_CH2, 44 PC4, 45 PC5, 46 PB0, 47 PB1, 48 PB2, 49 PF11, 50 PF12, 51 VSS_6, 52 VDD_6, 53 PF13, 54 PF14, 55 PF15, 56 PG0, 57 PG1, 58 PE7, 59 PE8, 60 PE9, 61 VSS_7, 62 VDD_7, 63 PE10, 64 PE11, 65 PE12, 66 PE13, 67 PE14, 68 PE15, 69 PB10, 70 PB11, 71 VSS_1, 72 VDD_1, 73 PB12, 74 PB13, 75 PB14, 76 PB15, 77 PD8, 78 PD9, 79 PD10, 80 PD11, 81 PD12, 82 PD13, 83 VSS_8, 84 VDD_8, 85 PD14, 86 PD15, 87 PG2, 88 PG3, 89 PG4, 90 PG5, 91 PG6, 92 PG7, 93 PG8, 94 VSS_9, 95 VDD9, 96 PC6, 97 PC7, 98 PC8, 99 PC9, 100 PA8/ USART1_CK/TIM1_CH1 /MCO, 101 PA9/ USART1_TX/TIM1_CH2, 102 PA10/ USART1_RX/TIM1_CH3, 103 PA11/USART1_CTS/CANRX /TIM1_CH4(6)/USBDM, 104 PA12 /USART1_RTS/USBDP/  CANTX /TIM1_ETR, 105 PA13 /JTMS-SWDIO, 106 NC, 107 VSS_2, 108 VDD_2, 109 PA14/JTCK-SWCLK, 110 PA15/SPI3_NSS/I2S3_WS/JTDI, 111 PC10, 112 PC11, 113 PC12, 114 PD0, 115 PD1, 116 PD2, 117 PD3, 118 PD4, 119 PD5, 120 VSS_10, 121 VDD_10, 122 PD6, 123 PD7, 124 PG9, 125 PG10, 126 PG11, 127 PG12, 128 PG13, 129 PG14, 130 VSS_11, 131 VDD_11, 132 PG15, 133 PB3, 134 PB4, 135 PB5, 136 PB6, 137 PB7, 138 BOOT0, 139 PB8, 140 PB9, 141 PE0, 142 PE1, 143 VSS_3, 144 VDD_3

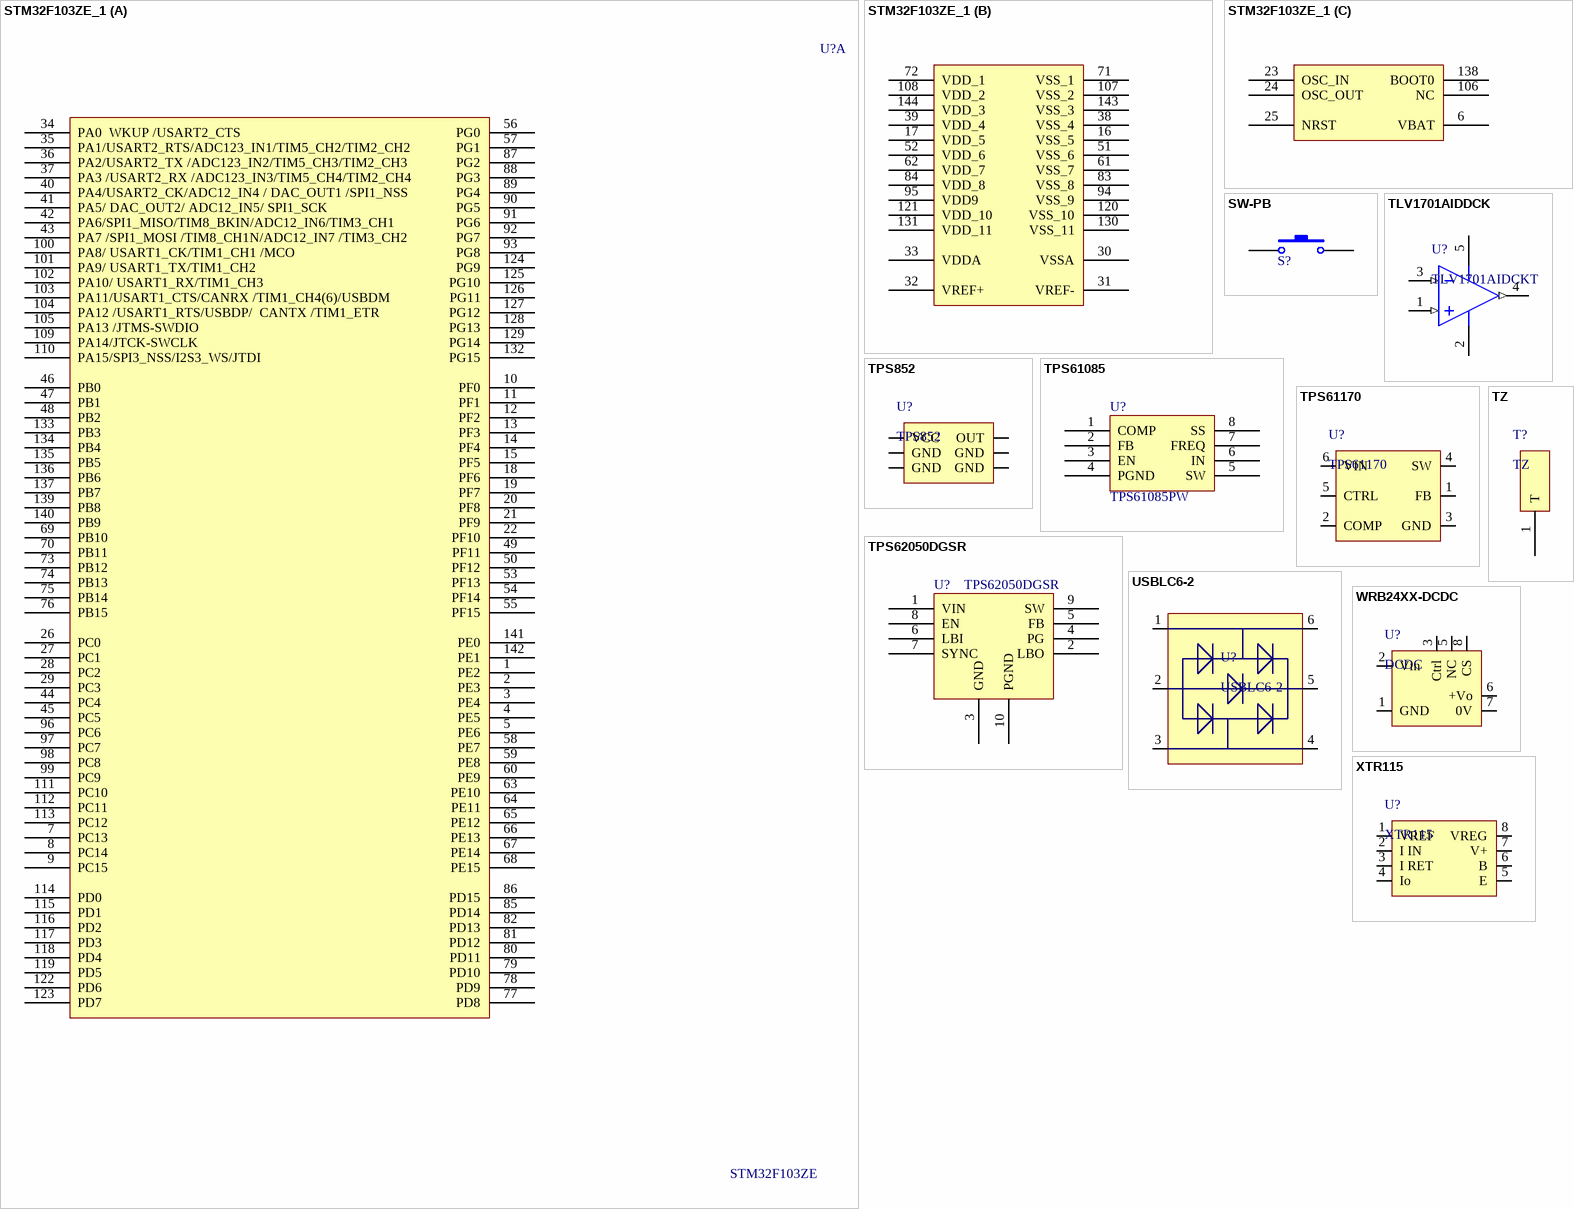
[diagram p4: symbols STM32F103ZE_1 to XTR115]

## STM32F103ZE_1
designator U?, comment STM32F103ZE
footprint LQFP144
part A pins: 1 PE2, 2 PE3, 3 PE4, 4 PE5, 5 PE6, 7 PC13, 8 PC14, 9 PC15, 10 PF0, 11 PF1, 12 PF2, 13 PF3, 14 PF4, 15 PF5, 18 PF6, 19 PF7, 20 PF8, 21 PF9, 22 PF10, 26 PC0, 27 PC1, 28 PC2, 29 PC3, 34 PA0  WKUP /USART2_CTS, 35 PA1/USART2_RTS/ADC123_IN1/TIM5_CH2/TIM2_CH2, 36 PA2/USART2_TX /ADC123_IN2/TIM5_CH3/TIM2_CH3, 37 PA3 /USART2_RX /ADC123_IN3/TIM5_CH4/TIM2_CH4, 40 PA4/USART2_CK/ADC12_IN4 / DAC_OUT1 /SPI1_NSS, 41 PA5/ DAC_OUT2/ ADC12_IN5/ SPI1_SCK, 42 PA6/SPI1_MISO/TIM8_BKIN/ADC12_IN6/TIM3_CH1, 43 PA7 /SPI1_MOSI /TIM8_CH1N/ADC12_IN7 /TIM3_CH2, 44 PC4, 45 PC5, 46 PB0, 47 PB1, 48 PB2, 49 PF11, 50 PF12, 53 PF13, 54 PF14, 55 PF15, 56 PG0, 57 PG1, 58 PE7, 59 PE8, 60 PE9, 63 PE10, 64 PE11, 65 PE12, 66 PE13, 67 PE14, 68 PE15, 69 PB10, 70 PB11, 73 PB12, 74 PB13, 75 PB14, 76 PB15, 77 PD8, 78 PD9, 79 PD10, 80 PD11, 81 PD12, 82 PD13, 85 PD14, 86 PD15, 87 PG2, 88 PG3, 89 PG4, 90 PG5, 91 PG6, 92 PG7, 93 PG8, 96 PC6, 97 PC7, 98 PC8, 99 PC9, 100 PA8/ USART1_CK/TIM1_CH1 /MCO, 101 PA9/ USART1_TX/TIM1_CH2, 102 PA10/ USART1_RX/TIM1_CH3, 103 PA11/USART1_CTS/CANRX /TIM1_CH4(6)/USBDM, 104 PA12 /USART1_RTS/USBDP/  CANTX /TIM1_ETR, 105 PA13 /JTMS-SWDIO, 109 PA14/JTCK-SWCLK, 110 PA15/SPI3_NSS/I2S3_WS/JTDI, 111 PC10, 112 PC11, 113 PC12, 114 PD0, 115 PD1, 116 PD2, 117 PD3, 118 PD4, 119 PD5, 122 PD6, 123 PD7, 124 PG9, 125 PG10, 126 PG11, 127 PG12, 128 PG13, 129 PG14, 132 PG15, 133 PB3, 134 PB4, 135 PB5, 136 PB6, 137 PB7, 139 PB8, 140 PB9, 141 PE0, 142 PE1
part B pins: 16 VSS_5, 17 VDD_5, 30 VSSA, 31 VREF-, 32 VREF+, 33 VDDA, 38 VSS_4, 39 VDD_4, 51 VSS_6, 52 VDD_6, 61 VSS_7, 62 VDD_7, 71 VSS_1, 72 VDD_1, 83 VSS_8, 84 VDD_8, 94 VSS_9, 95 VDD9, 107 VSS_2, 108 VDD_2, 120 VSS_10, 121 VDD_10, 130 VSS_11, 131 VDD_11, 143 VSS_3, 144 VDD_3
part C pins: 6 VBAT, 23 OSC_IN, 24 OSC_OUT, 25 NRST, 106 NC, 138 BOOT0

## SW-PB
designator S?  (value not drawn)
Switch; Published: 24-Mar-1999; LatestRevisionDate: 17-Jul-2002; LatestRevisionNote: Re-released for DXP Platform.; PackageReference: SPST-2; Publisher: Altium Limited
footprint 6x6_Button
pins: 1, 2

## TLV1701AIDDCK
designator U?, comment TLV1701AIDCKT
footprint DCK (SOT23, 5-Leads, Body 2.2x2.4mm (max), Pitch 0.65mm, IPC Medium Density)
pins: 1 IN+ (in), 2 V- (power), 3 IN- (in), 4 OUT (out), 5 V+ (power)

## TPS852
designator U?
pins: 1 VCC, 2 GND, 3 GND, 4 GND, 5 GND, 6 OUT

## TPS61085
designator U?, comment TPS61085PW
footprint PW (TSOP, 8-Leads, Body 3.1x4.5mm (max), Pitch 0.65mm, IPC Medium Density)
pins: 1 COMP, 2 FB, 3 EN, 4 PGND, 5 SW, 6 IN, 7 FREQ, 8 SS

## TPS61170
designator U?
pins: 1 FB, 2 COMP, 3 GND, 4 SW, 5 CTRL, 6 VIN

## TPS62050DGSR
designator U?
footprint VSSOP-10N (VSSOP, 10-Leads, Body 3.0x3.0mm (max), Pitch 0.50mm, IPC Medium Density)
pins: 1 VIN, 2 LBO, 3 GND, 4 PG, 5 FB, 6 LBI, 7 SYNC, 8 EN, 9 SW, 10 PGND

## TZ
designator T?
pins: 1 T

## USBLC6-2
designator U?
pins: 1, 2, 3, 4, 5, 6

## WRB24XX-DCDC
designator U?, comment DCDC
footprint WRB24xxDCDC (DCDC 隔离电源)
pins: 1 GND, 2 Vin, 3 Ctrl, 5 NC, 6 +Vo, 7 0V, 8 CS

## XTR115
designator U?
pins: 1 VREF, 2 I IN, 3 I RET, 4 Io, 5 E, 6 B, 7 V+, 8 VREG